# Altium footprint library 10X SD CARD READER PCB.PcbLib: 35 footprints (part 1 of 3)
Each footprint in its own frame and in the unit in brackets; x right, y up, seen from the top. Pads: shape width x height; smd on the part's side, far side on the other; paste and mask are expansions set on the pad; w line width, h text height; cw(c..) or ccw(c..) is an arc to the next point about the centre after c.
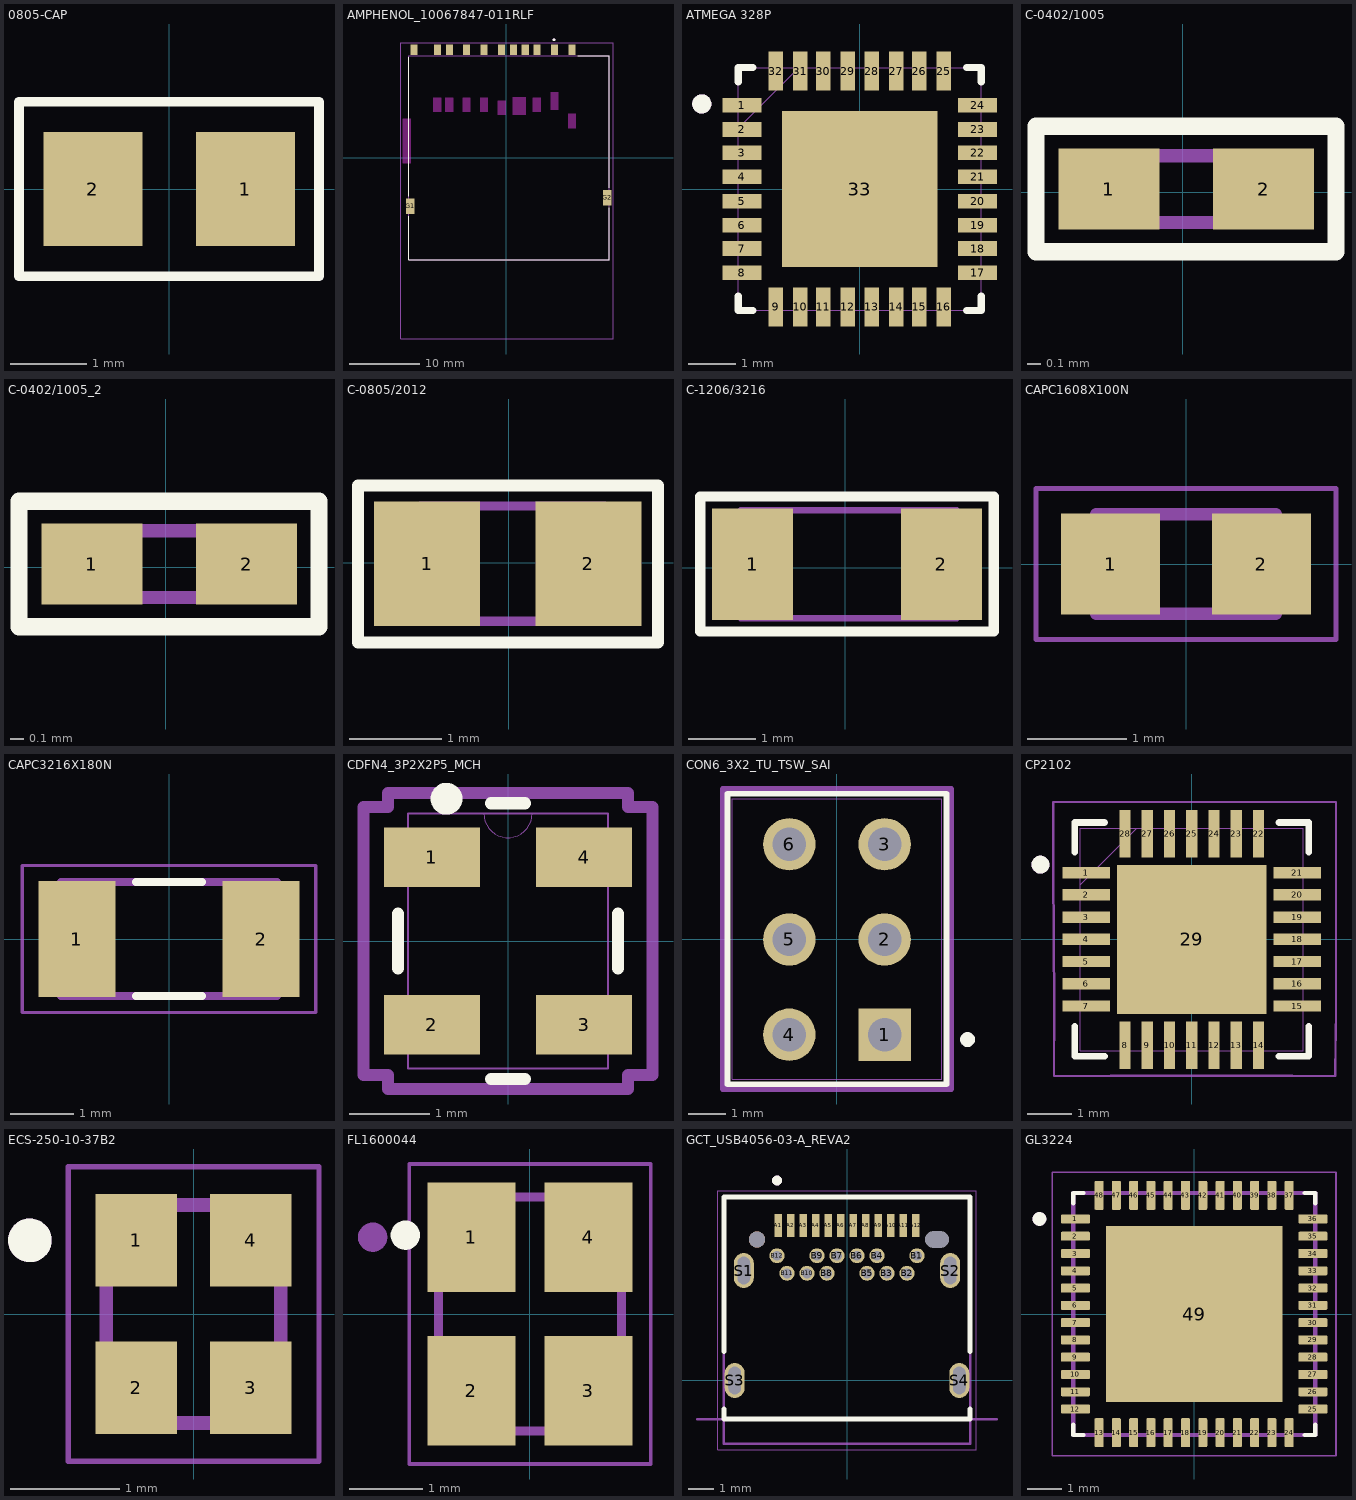
[diagram p0: the footprints below, top view; thin cyan lines are the x and y axes]

## 0805-CAP [mm]
height 12.75
pads (2):
  rect 1.3x1.5 smd: 1(1,0) 2(-1,0)
Top Overlay:
  lines w0.127: -1.971,-1.143 -1.971,1.143 1.966,1.143 1.966,-1.143 -1.971,-1.143
Mechanical 32:
  text "2" at -1.15,-0.104 h1
  text "1" at 0.85,-0.104 h1
3D body "CAP0805.stp": height 0.78, standoff 0, extent -1,-0.625 1,0.625

## AMPHENOL_10067847-011RLF [mm]
height 3
pads (13):
  rect 1x1.5 smd: 1(6.875,15.3) 2(4.375,15.3) 3(1.075,15.3) 4(-0.625,15.3) 5(-3.125,15.3) 6(-5.625,15.3) 7(-8.05,15.3) 8(-9.75,15.3) 9(9.375,15.3) CD(2.725,15.3) WP(-13.1,15.3)
  rect 1.2x2.2 smd: G1(-13.6,-6.9) G2(14.4,-5.7)
Top Overlay:
  circle w0.2: c6.8,16.75 r0.1
  lines w0.127: -13.85,-8.32 -13.85,-14.5 14.65,-14.5 14.65,-7.12 ; -13.85,-5.48 -13.85,14.235 ; 10.195,14.5 14.65,14.5 14.65,-4.28
Keep-Out Layer:
  region: -9.21,6.5 -10.31,6.5 -10.31,8.5 -9.21,8.5
  region: -7.51,6.5 -8.61,6.5 -8.61,8.5 -7.51,8.5
  region: -5.08,6.5 -6.18,6.5 -6.18,8.5 -5.08,8.5
  region: -0.08,6.1 -1.18,6.1 -1.18,8.1 -0.08,8.1
  region: -2.58,6.5 -3.68,6.5 -3.68,8.5 -2.58,8.5
  region: 2.82,6.1 0.92,6.1 0.92,8.6 2.82,8.6
  region: 9.92,4.2 8.82,4.2 8.82,6.2 9.92,6.2
  region: 7.42,6.8 6.32,6.8 6.32,9.3 7.42,9.3
  region: 4.92,6.5 3.82,6.5 3.82,8.5 4.92,8.5
  region: -13.5,-0.8 -14.7,-0.8 -14.7,5.5 -13.5,5.5
Mechanical 13:
  circle w0.2: c6.8,16.75 r0.1
  lines w0.127: -13.85,-14.5 14.65,-14.5 14.65,14.5 -13.85,14.5 -13.85,-14.5
Mechanical 15:
  lines w0.05: -14.95,-25.75 15.25,-25.75 15.25,16.3 -14.95,16.3 -14.95,-25.75
3D body "step_temp.STEP": height 2.8, standoff -0.1, extent -13.844,-14.605 14.606,15.645

## ATMEGA 328P [mil]
height 501.97
pads (33):
  rect 32x12 smd: 1(-97,69) 2(-97,49) 3(-97,30) 4(-97,10) 5(-97,-10) 6(-97,-30) 7(-97,-49) 8(-97,-69) 17(97,-69) 18(97,-49) 19(97,-30) 20(97,-10) 21(97,10) 22(97,30) 23(97,49) 24(97,69)
  rect 12x32 smd: 9(-69,-97) 10(-49,-97) 11(-30,-97) 12(-10,-97) 13(10,-97) 14(30,-97) 15(49,-97) 16(69,-97) 25(69,97) 26(49,97) 27(30,97) 28(10,97) 29(-10,97) 30(-30,97) 31(-49,97) 32(-69,97)
  rect 128x128 smd: 33(0,0)
Top Overlay:
  circle w7.87: c-130,70 r3.94
  lines w6: -100,-88 -100,-100 -88,-100 ; -100,88 -100,100 -88,100 ; 88,-100 100,-100 100,-88 ; 88,100 100,100 100,88
Mechanical 13:
  circle w7.87: c-130,70 r3.94
  lines w0: -100,-75 -100,-63 ; -100,-55 -100,-43 ; -100,-35 -100,-24 ; -100,-16 -100,-4 ; -100,4 -100,16 ; -100,24 -100,35 ; -100,43 -100,55 ; -100,50 -50,100 ; -100,63 -100,75 ; -75,-100 -63,-100 ; -75,100 -63,100 ; -55,-100 -43,-100 ; -55,100 -43,100 ; -35,-100 -24,-100 ; -35,100 -24,100 ; -16,-100 -4,-100 ; -16,100 -4,100 ; 4,-100 16,-100 ; 4,100 16,100 ; 24,-100 35,-100 ; 24,100 35,100 ; 43,-100 55,-100 ; 43,100 55,100 ; 63,-100 75,-100 ; 63,100 75,100 ; 100,-75 100,-63 ; 100,-55 100,-43 ; 100,-35 100,-24 ; 100,-16 100,-4 ; 100,4 100,16 ; 100,24 100,35 ; 100,43 100,55 ; 100,63 100,75 ; -100,-100 -100,100 100,100 100,-100 -100,-100
3D body "ATMEGA328-MU.STEP": height 39.37, standoff 0, extent -98.42,-98.42 98.43,98.43

## C-0402/1005 [mm] "Chip Capacitor, 2-Leads, Body 1.02x0.51mm, IPC Medium Density"
height 0.52
pads (2):
  rect 0.75x0.6 smd: 1(-0.55,0.022) 2(0.6,0.022)
Top Overlay:
  lines w0.127: -1.09,-0.443 1.137,-0.443 1.137,0.489 -1.09,0.489 -1.09,-0.443
Top Assembly:
  lines w0.1: -0.478,-0.225 0.524,-0.225 0.524,0.271 -0.478,0.271 -0.478,-0.225
  text "'.Designator'" at -2.8,-1.6 h1
3D body "0402 cap.STEP": height 0.52, standoff 0, extent -0.483,-0.241 0.517,0.283

## C-0402/1005_2 [mm]
pads (2):
  rect 0.75x0.6 smd: 1(-0.55,0.022) 2(0.6,0.022)
Top Overlay:
  lines w0.127: -1.09,-0.443 -1.09,0.489 1.137,0.489 1.137,-0.443 -1.09,-0.443
Top Assembly:
  lines w0.1: -0.478,-0.225 -0.478,0.271 0.524,0.271 0.524,-0.225 -0.478,-0.225
  text "'.Designator'" at -2.8,-1.6 h1
3D body "0402 cap.STEP": height 0.52, standoff 0, extent -0.483,-0.241 0.517,0.283

## C-0805/2012 [mm] "Chip Capacitor, 2-Leads, Body 2.00x1.20mm, IPC Medium Density"
height 1.15
pads (2):
  rect 1.15x1.35 smd: 1(-0.883,-0.009) 2(0.867,-0.009)
Top Overlay:
  lines w0.127: -1.632,-0.864 -1.632,-0.633 -1.632,0.838 1.621,0.838 1.621,-0.864 -1.632,-0.864
Top Assembly:
  lines w0.1: -0.958,-0.634 -0.958,0.616 1.042,0.616 1.042,-0.634 -0.958,-0.634
  text "'.Designator'" at -2.987,-1.896 h1
3D body "0805 cap.STEP": height 1.26, standoff -0.02, extent -1.02,-0.644 0.98,0.63

## C-1206/3216 [mm] "Chip Capacitor, 2-Leads, Body 3.25x1.60mm, IPC Medium Density"
height 1.6
pads (2):
  rect 1.2x1.65 smd: 1(-1.373,0.055) 2(1.427,0.055)
Top Overlay:
  lines w0.15: -2.15,-0.94 -2.15,0.714 -2.15,1.058 2.203,1.058 2.203,-0.94 -2.15,-0.94
Top Assembly:
  lines w0.1: -1.548,-0.745 -1.548,0.855 1.652,0.855 1.652,-0.745 -1.548,-0.745
  text "'.Designator'" at -3.2,1.45 h1.27
3D body "1206 cap.STEP": height 1.62, standoff 0, extent -1.59,-0.762 1.61,0.862

## CAPC1608X100N [mm]
pads (2):
  rect 1x1.02 smd: 1(-0.759,0) 2(0.759,0)
Mechanical 13:
  lines w0.127: -0.9,-0.5 -0.9,0.5 0.9,0.5 0.9,-0.5 -0.9,-0.5
Mechanical 15:
  lines w0.05: -1.508,-0.758 -1.508,0.758 1.508,0.758 1.508,-0.758 -1.508,-0.758

## CAPC3216X180N [mm]
pads (2):
  rect 1.21x1.82 smd: 1(-1.45,0) 2(1.45,0)
Top Overlay:
  lines w0.127: -0.52,-0.9 0.52,-0.9 ; -0.52,0.9 0.52,0.9
Mechanical 13:
  lines w0.127: -1.7,-0.9 -1.7,0.9 1.7,0.9 1.7,-0.9 -1.7,-0.9
Mechanical 15:
  lines w0.05: -2.308,-1.158 -2.308,1.158 2.308,1.158 2.308,-1.158 -2.308,-1.158
3D body "step_temp.STEP": height 1.8, standoff 0, extent -1.6,-0.8 1.6,0.8

## CDFN4_3P2X2P5_MCH [mm]
pads (4):
  rect 1.205x0.749 smd paste+0 mask+0: 1(-0.952,1.05) 2(-0.952,-1.05) 3(0.952,-1.05) 4(0.952,1.05)
Top Overlay:
  circle w0.2: c-0.77,1.782 r0.1
  lines w0.152: -1.377,-0.343 -1.377,0.343 ; -0.211,-1.727 0.211,-1.727 ; -0.211,1.727 0.211,1.727 ; 1.377,-0.343 1.377,0.343
Mechanical 13:
  lines w0: -0.305,1.6 ccw(c0,1.6) 0.305,1.6
  lines w0.025: -1.25,-1.6 -1.25,1.6 1.25,1.6 1.25,-1.6 -1.25,-1.6
Mechanical 15:
  lines w0.152: -1.809,-1.679 -1.504,-1.679 -1.504,-1.854 1.504,-1.854 1.504,-1.679 1.809,-1.679 1.809,1.679 1.504,1.679 1.504,1.854 -1.504,1.854 -1.504,1.679 -1.809,1.679 -1.809,-1.679
3D body "CDFN4_3P2X2P5_MCH.step": height 0.81, standoff 0, extent -1.25,-1.6 1.25,1.6

## CON6_3X2_TU_TSW_SAI [mil]
height 35.04
pads (6):
  rect 55x55 hole 35 paste-99999 mask+0: 1(50,-100)
  round 55 hole 35 paste-99999 mask+0: 2(50,0) 3(50,100) 4(-50,-100) 5(-50,0) 6(-50,100)
Top Overlay:
  lines w6: -115,-152 -115,153 115,153 115,-152 -115,-152
  lines w7.87: 140.98,-104.33 ccw(c137.11,-105.08) 141.05,-105.08
Bottom Overlay:
  circle w7.87: c137.02,-104.71 r3.94
Mechanical 13:
  circle w0: c50,-100 r10
  lines w1: -110,-147 -110,148 110,148 110,-147 -110,-147
Mechanical 15:
  lines w6: -120,-157 -87.5,-157 87.5,-157 120,-157 120,158 87.5,158 -87.5,158 -120,158 -120,-157

## CP2102 [mil]
height 501.97
pads (29):
  rect 42x10 smd paste+0 mask+0: 1(-93.5,59.06) 2(-93.5,39.37) 3(-93.5,19.68) 4(-93.5,0) 5(-93.5,-19.68) 6(-93.5,-39.37) 7(-93.5,-59.06) 15(93.5,-59.06) 16(93.5,-39.37) 17(93.5,-19.68) 18(93.5,0) 19(93.5,19.68) 20(93.5,39.37) 21(93.5,59.06)
  rect 10x42 smd paste+0 mask+0: 8(-59.06,-93.5) 9(-39.37,-93.5) 10(-19.68,-93.5) 11(0,-93.5) 12(19.68,-93.5) 13(39.37,-93.5) 14(59.06,-93.5) 22(59.06,93.5) 23(39.37,93.5) 24(19.68,93.5) 25(0,93.5) 26(-19.68,93.5) 27(-39.37,93.5) 28(-59.06,93.5)
  rect 132x132 smd paste-65.5 mask+0: 29(0,0)
Top Overlay:
  circle w7.87: c-133.88,66.18 r3.94
  lines w6: -103.5,-77.16 -103.5,-103.5 -77.16,-103.5 ; -103.5,77.16 -103.5,103.5 -77.16,103.5 ; 77.16,-103.5 103.5,-103.5 103.5,-77.16 ; 77.16,103.5 103.5,103.5 103.5,77.16
Top Paste:
  region: -3.94,62.06 -62.06,62.06 -62.06,3.94 -3.94,3.94
  region: -3.94,-3.94 -62.06,-3.94 -62.06,-62.06 -3.94,-62.06
  region: 62.06,62.06 3.94,62.06 3.94,3.94 62.06,3.94
  region: 62.06,-3.94 3.94,-3.94 3.94,-62.06 62.06,-62.06
Mechanical 13:
  lines w1: -98.5,48.5 -48.5,98.5 ; -98.5,-98.5 98.5,-98.5 98.5,98.5 -98.5,98.5 -98.5,-98.5 ; -98.5,-65.06 -98.5,-53.06 -98.5,-65.06 ; -98.5,-45.37 -98.5,-33.37 -98.5,-45.37 ; -98.5,-25.68 -98.5,-13.69 -98.5,-25.68 ; -98.5,-6 -98.5,6 -98.5,-6 ; -98.5,13.69 -98.5,25.68 -98.5,13.69 ; -98.5,33.37 -98.5,45.37 -98.5,33.37 ; -98.5,53.06 -98.5,65.06 -98.5,53.06 ; -65.06,-98.5 -53.06,-98.5 -65.06,-98.5 ; -65.06,98.5 -53.06,98.5 -65.06,98.5 ; -45.37,-98.5 -33.37,-98.5 -45.37,-98.5 ; -45.37,98.5 -33.37,98.5 -45.37,98.5 ; -25.68,-98.5 -13.69,-98.5 -25.68,-98.5 ; -25.68,98.5 -13.69,98.5 -25.68,98.5 ; -6,-98.5 6,-98.5 -6,-98.5 ; -6,98.5 6,98.5 -6,98.5 ; 13.69,-98.5 25.68,-98.5 13.69,-98.5 ; 13.69,98.5 25.68,98.5 13.69,98.5 ; 33.37,-98.5 45.37,-98.5 33.37,-98.5 ; 33.37,98.5 45.37,98.5 33.37,98.5 ; 53.06,-98.5 65.06,-98.5 53.06,-98.5 ; 53.06,98.5 65.06,98.5 53.06,98.5 ; 98.5,-65.06 98.5,-53.06 98.5,-65.06 ; 98.5,-45.37 98.5,-33.37 98.5,-45.37 ; 98.5,-25.68 98.5,-13.69 98.5,-25.68 ; 98.5,-6 98.5,6 98.5,-6 ; 98.5,13.69 98.5,25.68 98.5,13.69 ; 98.5,33.37 98.5,45.37 98.5,33.37 ; 98.5,53.06 98.5,65.06 98.5,53.06
  lines w7.87: -130.22,67.52 ccw(c-133.89,66.12) -129.96,66.12
Mechanical 15:
  lines w1.97: 127,121.61 89.81,121.61 -71.81,121.61 -122.61,121.61 -122.61,61.06 -121.61,-59.06 -122,-121 -71.81,-120.61 88.81,-120.61 127,-121 127.61,-58.6 127.61,61.21 127.61,121.61
3D body "QFN28_5X5_SIL.step": height 39.09, standoff 0, extent -98.5,-98.5 98.5,98.5

## ECS-250-10-37B2 [mm]
height 0.89
pads (4):
  rect 0.75x0.85 smd: 1(-0.525,0.675) 2(-0.525,-0.675) 3(0.525,-0.675) 4(0.525,0.675)
Top Overlay:
  circle w0.2: c-1.5,0.675 r0.1
Mechanical 13:
  circle w0.2: c-1.5,0.675 r0.1
  lines w0.127: -0.8,-1 -0.8,1 0.8,1 0.8,-1 -0.8,-1
Mechanical 15:
  lines w0.05: -1.15,-1.35 -1.15,1.35 1.15,1.35 1.15,-1.35 -1.15,-1.35
3D body "step_temp.STEP": height 0.5, standoff 0, extent -0.8,-1 0.8,1

## FL1600044 [mm]
height 12.75
pads (4):
  rect 1.2x1.5 smd: 1(-0.8,1.05) 2(-0.8,-1.05) 3(0.8,-1.05) 4(0.8,1.05)
Top Overlay:
  circle w0.2: c-1.703,1.078 r0.1
Mechanical 13:
  circle w0.2: c-2.15,1.05 r0.1
  lines w0.127: -1.25,-1.6 1.25,-1.6 1.25,1.6 -1.25,1.6 -1.25,-1.6
Mechanical 15:
  lines w0.05: -1.65,-2.05 1.65,-2.05 1.65,2.05 -1.65,2.05 -1.65,-2.05
3D body "step_temp.STEP": height 0.78, standoff 0, extent -1.25,-1.6 1.25,1.6

## GCT_USB4056-03-A_REVA2 [mm]
height 3.31
pads (30):
  rect 0.3x0.9 smd: A1(-2.75,6.2) A2(-2.25,6.2) A3(-1.75,6.2) A4(-1.25,6.2) A5(-0.75,6.2) A6(-0.25,6.2) A7(0.25,6.2) A8(0.75,6.2) A9(1.25,6.2) A10(1.75,6.2) A11(2.25,6.2) A12(2.75,6.2)
  round 0.6 hole 0.4: B1(2.8,4.99) B2(2.4,4.29) B3(1.6,4.29) B4(1.2,4.99) B5(0.8,4.29) B6(0.4,4.99) B7(-0.4,4.99) B8(-0.8,4.29) B9(-1.2,4.99) B10(-1.6,4.29) B11(-2.4,4.29) B12(-2.8,4.99)
  oval 0.8x1.4 hole 0.5 slot 1.1 at 90 deg: S1(-4.13,4.4) S2(4.13,4.4) S3(-4.49,0) S4(4.49,0)
  round 0.65 hole 0.65 unplated: ""(-3.6,5.64)
  oval 0.65x0 hole 0.65 slot 0.95 at 0 deg unplated: ""(3.6,5.64)
Top Overlay:
  circle w0.2: c-2.8,8 r0.1
  lines w0.2: -4.925,-1.15 -4.925,-1.55 4.925,-1.55 4.925,-1.15 ; -4.925,1.15 -4.925,7.34 4.925,7.34 4.925,1.15
Top Solder:
  region: 3.772,6.064 3.794,6.063 3.816,6.06 3.838,6.056 3.86,6.051 3.881,6.044 3.902,6.037 3.923,6.028 3.943,6.019 3.962,6.008 3.981,5.996 4,5.984 4.017,5.97 4.034,5.956 4.051,5.941 4.066,5.924 4.08,5.907 4.094,5.89 4.106,5.871 4.118,5.853 4.129,5.833 4.138,5.813 4.147,5.792 4.154,5.771 4.161,5.75 4.166,5.728 4.17,5.706 4.173,5.684 4.174,5.662 4.175,5.64 4.174,5.618 4.173,5.596 4.17,5.574 4.166,5.552 4.161,5.53 4.154,5.509 4.147,5.488 4.138,5.467 4.129,5.447 4.118,5.428 4.106,5.409 4.094,5.39 4.08,5.373 4.066,5.356 4.051,5.339 4.034,5.324 4.017,5.31 4,5.296 3.981,5.284 3.962,5.272 3.943,5.261 3.923,5.252 3.902,5.243 3.881,5.236 3.86,5.229 3.838,5.224 3.816,5.22 3.794,5.217 3.772,5.216 3.75,5.215 3.45,5.215 3.428,5.216 3.406,5.217 3.384,5.22 3.362,5.224 3.34,5.229 3.319,5.236 3.298,5.243 3.277,5.252 3.257,5.261 3.237,5.272 3.219,5.284 3.2,5.296 3.183,5.31 3.166,5.324 3.149,5.339 3.134,5.356 3.12,5.373 3.106,5.39 3.094,5.409 3.082,5.428 3.071,5.447 3.062,5.467 3.053,5.488 3.046,5.509 3.039,5.53 3.034,5.552 3.03,5.574 3.027,5.596 3.026,5.618 3.025,5.64 3.026,5.662 3.027,5.684 3.03,5.706 3.034,5.728 3.039,5.75 3.046,5.771 3.053,5.792 3.062,5.813 3.071,5.833 3.082,5.853 3.094,5.871 3.106,5.89 3.12,5.907 3.134,5.924 3.149,5.941 3.166,5.956 3.183,5.97 3.2,5.984 3.219,5.996 3.237,6.008 3.257,6.019 3.277,6.028 3.298,6.037 3.319,6.044 3.34,6.051 3.362,6.056 3.384,6.06 3.406,6.063 3.428,6.064 3.45,6.065 3.75,6.065
Bottom Solder:
  region: 3.772,6.064 3.794,6.063 3.816,6.06 3.838,6.056 3.86,6.051 3.881,6.044 3.902,6.037 3.923,6.028 3.943,6.019 3.962,6.008 3.981,5.996 4,5.984 4.017,5.97 4.034,5.956 4.051,5.941 4.066,5.924 4.08,5.907 4.094,5.89 4.106,5.871 4.118,5.853 4.129,5.833 4.138,5.813 4.147,5.792 4.154,5.771 4.161,5.75 4.166,5.728 4.17,5.706 4.173,5.684 4.174,5.662 4.175,5.64 4.174,5.618 4.173,5.596 4.17,5.574 4.166,5.552 4.161,5.53 4.154,5.509 4.147,5.488 4.138,5.467 4.129,5.447 4.118,5.428 4.106,5.409 4.094,5.39 4.08,5.373 4.066,5.356 4.051,5.339 4.034,5.324 4.017,5.31 4,5.296 3.981,5.284 3.962,5.272 3.943,5.261 3.923,5.252 3.902,5.243 3.881,5.236 3.86,5.229 3.838,5.224 3.816,5.22 3.794,5.217 3.772,5.216 3.75,5.215 3.45,5.215 3.428,5.216 3.406,5.217 3.384,5.22 3.362,5.224 3.34,5.229 3.319,5.236 3.298,5.243 3.277,5.252 3.257,5.261 3.237,5.272 3.219,5.284 3.2,5.296 3.183,5.31 3.166,5.324 3.149,5.339 3.134,5.356 3.12,5.373 3.106,5.39 3.094,5.409 3.082,5.428 3.071,5.447 3.062,5.467 3.053,5.488 3.046,5.509 3.039,5.53 3.034,5.552 3.03,5.574 3.027,5.596 3.026,5.618 3.025,5.64 3.026,5.662 3.027,5.684 3.03,5.706 3.034,5.728 3.039,5.75 3.046,5.771 3.053,5.792 3.062,5.813 3.071,5.833 3.082,5.853 3.094,5.871 3.106,5.89 3.12,5.907 3.134,5.924 3.149,5.941 3.166,5.956 3.183,5.97 3.2,5.984 3.219,5.996 3.237,6.008 3.257,6.019 3.277,6.028 3.298,6.037 3.319,6.044 3.34,6.051 3.362,6.056 3.384,6.06 3.406,6.063 3.428,6.064 3.45,6.065 3.75,6.065
Mechanical 13:
  circle w0.2: c-2.8,8 r0.1
  lines w0.1: -6,-1.55 6,-1.55 ; -4.925,-2.53 4.925,-2.53 4.925,7.34 -4.925,7.34 -4.925,-2.53
  text "PCB Edge" at 5.5,-1.3 h1
Mechanical 15:
  lines w0.05: -5.175,-2.78 5.175,-2.78 5.175,7.59 -5.175,7.59 -5.175,-2.78
3D body "step_temp.STEP": height 3.26, standoff -1.2, extent -4.925,-2.53 4.925,7.34

## GL3224 [mm]
height 0.89
pads (49):
  rrect25% 0.84x0.26 smd: 1(-3.435,2.75) 2(-3.435,2.25) 3(-3.435,1.75) 4(-3.435,1.25) 5(-3.435,0.75) 6(-3.435,0.25) 7(-3.435,-0.25) 8(-3.435,-0.75) 9(-3.435,-1.25) 10(-3.435,-1.75) 11(-3.435,-2.25) 12(-3.435,-2.75) 25(3.435,-2.75) 26(3.435,-2.25) 27(3.435,-1.75) 28(3.435,-1.25) 29(3.435,-0.75) 30(3.435,-0.25) 31(3.435,0.25) 32(3.435,0.75) 33(3.435,1.25) 34(3.435,1.75) 35(3.435,2.25) 36(3.435,2.75)
  rrect25% 0.26x0.84 smd: 13(-2.75,-3.435) 14(-2.25,-3.435) 15(-1.75,-3.435) 16(-1.25,-3.435) 17(-0.75,-3.435) 18(-0.25,-3.435) 19(0.25,-3.435) 20(0.75,-3.435) 21(1.25,-3.435) 22(1.75,-3.435) 23(2.25,-3.435) 24(2.75,-3.435) 37(2.75,3.435) 38(2.25,3.435) 39(1.75,3.435) 40(1.25,3.435) 41(0.75,3.435) 42(0.25,3.435) 43(-0.25,3.435) 44(-0.75,3.435) 45(-1.25,3.435) 46(-1.75,3.435) 47(-2.25,3.435) 48(-2.75,3.435)
  rect 5.1x5.1 smd paste-4: 49(0,0)
Top Overlay:
  circle w0.2: c-4.475,2.75 r0.1
  lines w0.127: -3.5,-3.2 -3.5,-3.5 -3.2,-3.5 ; -3.5,3.2 -3.5,3.5 -3.2,3.5 ; 3.2,-3.5 3.5,-3.5 3.5,-3.2 ; 3.2,3.5 3.5,3.5 3.5,3.2
Top Paste:
  region: -0.47,0.47 -2.08,0.47 -2.08,2.08 -0.47,2.08
  region: 2.08,0.47 0.47,0.47 0.47,2.08 2.08,2.08
  region: -0.47,-2.08 -2.08,-2.08 -2.08,-0.47 -0.47,-0.47
  region: 2.08,-2.08 0.47,-2.08 0.47,-0.47 2.08,-0.47
Mechanical 13:
  circle w0.2: c-4.475,2.75 r0.1
  lines w0.127: -3.5,-3.5 3.5,-3.5 3.5,3.5 -3.5,3.5 -3.5,-3.5
Mechanical 15:
  lines w0.05: -4.105,-4.105 4.105,-4.105 4.105,4.105 -4.105,4.105 -4.105,-4.105
3D body "step_temp.STEP": height 1, standoff 0, extent -3.5,-3.5 3.5,3.5